# Altium integrated library piRack.IntLib: 23 symbols
Pins are listed as number, name and electrical type; pins without a type are passive.

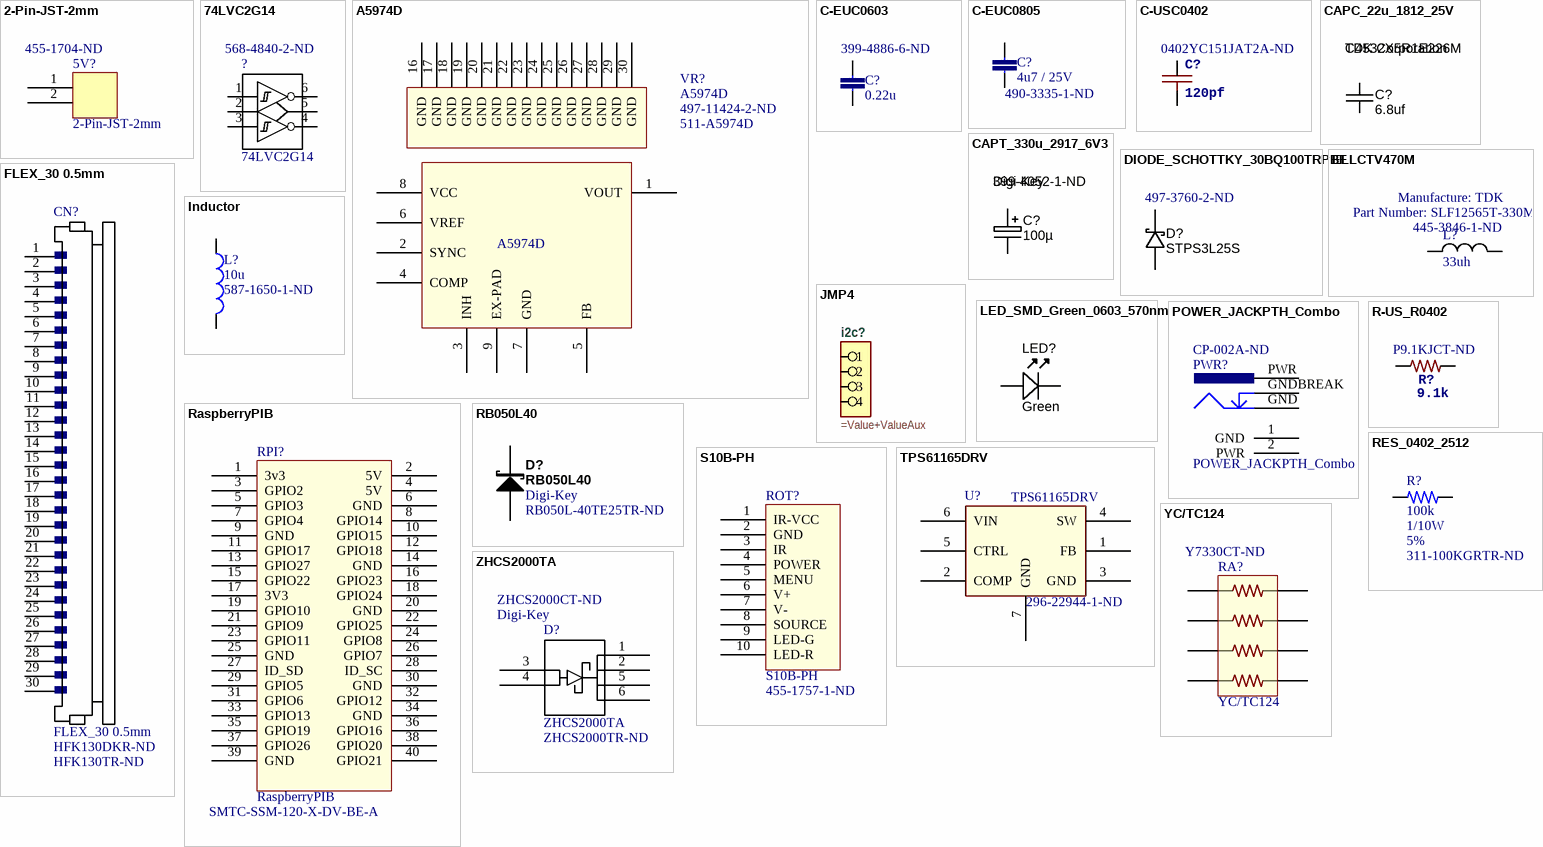
[diagram p0: symbols 2-Pin-JST-2mm to ZHCS2000TA]

## 2-Pin-JST-2mm
designator 5V?  Supplier Part Number 1: 455-1704-ND
Supplier 1: Digi-Key
footprint 2-pin-JST-2mm (B2B-PH-K-S JST)
pins: 1 (power), 2 (power)

## 74LVC2G14
designator ?  Supplier Part Number 1: 568-4840-2-ND
Supplier 1: Digi-Key
footprint SOT23-6
pins: 1, 2, 3, 4, 5, 6

## A5974D
designator VR?  Supplier Part Number 1: 497-11424-2-ND  Supplier Part Number 2: 511-A5974D
Supplier 1: Digi-Key; Supplier 2: Mouser
footprint HSOP8
pins: 1 VOUT, 2 SYNC, 3 INH, 4 COMP, 5 FB, 6 VREF, 7 GND, 8 VCC, 9 EX-PAD, 16 GND (power), 17 GND (power), 18 GND (power), 19 GND (power), 20 GND (power), 21 GND (power), 22 GND (power), 23 GND (power), 24 GND (power), 25 GND (power), 26 GND (power), 27 GND (power), 28 GND (power), 29 GND (power), 30 GND (power)

## C-EUC0603
designator C?, comment 0.22u  Supplier Part Number 2: 399-4886-6-ND
Supplier 1: Digi-Key; Supplier Part Number 1: 478-1245-2-ND; Supplier 2: Digi-Key
footprint 0402c
pins: 1, 2

## C-EUC0805
designator C?, comment 4u7 / 25V  Supplier Part Number 1: 490-3335-1-ND
Supplier 1: Digi-Key
footprint C0805 (CAPACITOR)
pins: 1, 2

## C-USC0402
designator C?, comment 120pf  Supplier Part Number 1: 0402YC151JAT2A-ND
Supplier 1: Digi-Key
footprint 0402C
pins: 1, 2

## CAPC_22u_1812_25V
designator C?, comment value 6.8uf  Manufacturer 1: TDK Corporation  Manufacturer Part Number 1: C4532X5R1E226M  (hidden comment: approved sub OK)
TDK C4532X5R1H685M; Tolerance: ±20%; Ratings: 25V; X5R; Material: ceramic; SCDType: undef; Package / Case: 1812 (4532 metric); Supplier 1: Digi-Key; Supplier Part Number 1: 445-1444-1-ND
footprint CAPC4532X280N (Chip Capacitor, Body 4.5x3.2mm, 1812, IPC Medium Density)
pins: 1, 2

## CAPT_330u_2917_6V3
designator C?, comment Supplier 1: Digi-Key  Supplier Part Number 1: 399-4052-1-ND  (hidden comment: 100µ)
TPSC107M006R0150; Manufacturer Size Code: D; Manufacturer Part Number: T520D337M006ATE015; Ratings: 6.3V; Tolerance: ±20%; Material: Solid Tantalum; ESR (Equivalent Series Resistance): 15 mOhm; SCDType: spec; Package / Case: 2917 (7343 Metric); Operating Temperature: -55°C ~ 125°C; Size / Dimension: 0.287" L x 0.169" W (7.30mm x 4.30mm); Height - Seated (Max): 0.122" (3.10mm); ComponentLink1URL: http://www.kemet.com/datasheets&T520D337M006ATE015; ComponentLink1Description: T520D Datasheet; Value: 100µ
footprint CAPMP7343X310N (Molded body capacitor, Body 7.3x4.3mm, 2917, IPC Nominal settings)
pins: 1, 2

## DIODE_SCHOTTKY_30BQ100TRPBF
designator D?  Ratings: STPS3L25S  Supplier Part Number 2: 497-3760-2-ND  (hidden comment: DIODE_SCHOTTKY_30BQ100TRPBF)
Diode Schottky SMD 100V 3A SMC; Manufacturer 1: Vishay/Semiconductors; Material: Si; Speed: Fast Recovery =< 500ns, > 200mA (Io); SCDType: source; Package / Case: DO-214AB, SMC; Diode Type: Schottky; Mounting Type: Surface Mount; Supplier 1: Digi-Key; Manufacturer Part Number 1: 30BQ100TRPBF; Supplier Part Number 1: 30BQ100PBFCT-ND; Supplier 2: Digi-Key
footprint DO-214AB (JEDEC DO214 variation AB. SMC)
pins: A, K

## ELLCTV470M
designator L?, comment 33uh  Manufacture: TDK  Part Number: SLF12565T-330M2R8-H  Supplier Part Number 1: 445-3846-1-ND
Supplier 1: Digi-Key
footprint ELLCTV
footprint 12x12 Inductor
footprint SLF6025 (TDK Inductor)
pins: 1, 2

## FLEX_30 0.5mm
designator CN?  Supplier Part Number 1: HFK130DKR-ND  Supplier Part Number 2: HFK130TR-ND
Supplier 1: Digi-Key; Supplier 2: Digi-Key
footprint FH12A-30S-0.5H(55)
pins: 1, 2, 3, 4, 5, 6, 7, 8, 9, 10, 11, 12, 13, 14, 15, 16, 17, 18, 19, 20, 21, 22, 23, 24, 25, 26, 27, 28, 29, 30

## Inductor
designator L?, comment 10u  Supplier Part Number 1: 587-1650-1-ND
Supplier 1: Digi-Key
footprint IND-NR6045
pins: 1, 2

## JMP4
designator i2c?
=Description
footprint JMP1X4-F180_2.54
pins: 1, 2, 3, 4

## LED_SMD_Green_0603_570nm
designator LED?, comment Green
LED 0603 SMD Green 570nm 50mcd 20mA; Manufacturer 1: Kingbright Company LLC; Manufacturer Part Number 1: LED-KPL3015SGC; Material: AlGaInP; Ratings: 20mcd min; 50 mcd typ; 570 nm; Voltage - Forward (Vf) Typ: 2.1V; Viewing Angle: 120°; Lens Style/Size: Rectangle with Flat Top, 1.1mm x 0.8mm; Voltage - Forward (Vf) @ 10mA: 2.0V; SCDType: source; Wavelength - Peak: 574nm; Lens Type: Clear; Package / Case: 0603 (1608 metric); Color: Green; Current - Test: 20mA; Supplier 1: Digi-Key; Supplier Part Number 1: 754-1116-1-ND; RoHS 1: RoHS Compliant; Wavelength - Dominant: 570nm; ComponentLink1URL: http://www.us.kingbright.com/images/catalog/SPEC/APT1608CGCK.pdf; ComponentLink1Description: http://www.us.kingbright.com/images/catalog/SPEC/APT1608CGCK.pdf
footprint LED-0603-GREEN
pins: A, K

## POWER_JACKPTH_Combo
designator PWR?  Supplier Part Number 1: CP-002A-ND
Dual footprint for Jack and Jumper power; Supplier 1: Digi-Key
footprint POWER_JACK_PTH - Combo (Power jack and Connector Combined)
pins: 1 GND, 2 PWR, GND, GNDBREAK, PWR

## R-US_R0402
designator R?, comment 9.1k  Supplier Part Number 1: P9.1KJCT-ND
Supplier 1: Digi-Key
footprint 0402R
pins: 1, 2

## RaspberryPIB
designator RPI?  Samtec: SMTC-SSM-120-X-DV-BE-A
Harwin: M20-6112045; AdaFruit: 1992
footprint 40 pin female
footprint SMTC-SSM-120-X-DV-BE-A (C.L. Double Vertical SMT Socket Strip, 2x20 Pins, 2.54mm Pitch, Female)
pins: 1 3v3, 2 5V, 3 GPIO2, 4 5V, 5 GPIO3, 6 GND, 7 GPIO4, 8 GPIO14, 9 GND, 10 GPIO15, 11 GPIO17, 12 GPIO18, 13 GPIO27, 14 GND, 15 GPIO22, 16 GPIO23, 17 3V3, 18 GPIO24, 19 GPIO10, 20 GND, 21 GPIO9, 22 GPIO25, 23 GPIO11, 24 GPIO8, 25 GND, 26 GPIO7, 27 ID_SD, 28 ID_SC, 29 GPIO5, 30 GND, 31 GPIO6, 32 GPIO12, 33 GPIO13, 34 GND, 35 GPIO19, 36 GPIO16, 37 GPIO26, 38 GPIO20, 39 GND, 40 GPIO21

## RB050L40
designator D?  Supplier 1: Digi-Key  Supplier Part Number 1: RB050L-40TE25TR-ND
Schottky Diode SOD106; Reel: D2
footprint SOD-106
pins: A, K

## RES_0402_2512
designator R?, comment Wattage: 1/10W  Tolerance: 5%  Supplier Part Number 1: 311-100KGRTR-ND  (hidden comment: 100k)
Resistor 0402-2512; Value: 100k; Supplier 1: Digi-Key
footprint R0402 (Resisitor SMT 0402)
footprint 0402r
footprint R0805 (Resistor SMT 0805)
footprint R1206 (Resistor SMT 1206)
footprint R1210 (Resistor SMT 1210)
footprint R2010 (Resistor SMT 2010)
footprint R2512 (Resistor SMT 2512)
pins: 1, 2

## S10B-PH
designator ROT?  Supplier Part Number 1: 455-1757-1-ND
Supplier 1: Digi-Key
footprint PH-SM4
pins: 1 IR-VCC, 2 GND, 3 IR, 4 POWER, 5 MENU, 6 V+, 7 V-, 8 SOURCE, 9 LED-G, 10 LED-R

## TPS61165DRV
designator U?  Supplier Part Number 1: 296-22944-1-ND
Supplier 1: Digi-Key
footprint SON-6
pins: 1 FB, 2 COMP, 3 GND, 4 SW, 5 CTRL, 6 VIN, 7 GND

## YC/TC124
designator RA?  Supplier Part Number 1: Y7330CT-ND
Yaego YC/TC124 Resistor Array; Supplier 1: Digi-Key
footprint YC/TC124 (Yaego YC/TC124)
pins: 1, 2, 3, 4, 5, 6, 7, 8

## ZHCS2000TA
designator D?  Supplier 1: Digi-Key  Supplier Part Number 1: ZHCS2000TR-ND  Supplier Part Number 2: ZHCS2000CT-ND
Supplier 2: Digi-Key
footprint SOT23-6
pins: 1, 2, 3, 4, 5, 6